# EAGLE library part RS485-TTL-CONVERTER (library zort-library)
RS485 to TTL converter based on MAX485 chip
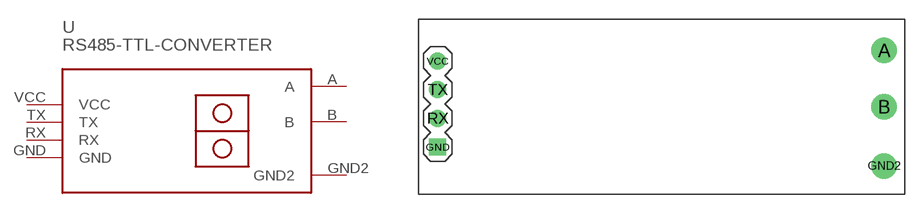
[diagram p1: symbol with the pads of RS485-TTL-CONVERTER; footprint RS485-TTL-CONVERTER]

Designator prefix -

## RS485-TTL-CONVERTER  [RS485-TTL-CONVERTER]
A  A  pas
B  B  pas
GND  GND  pas
GND2  GND2  pwr
RX  RX  pas
TX  TX  pas
VCC  VCC  pas

## Footprint RS485-TTL-CONVERTER (pad centres in mm)
RS485 to TTL converter based on MAX485 chip
drill 1.5: A 41.2,12.75; B 41.2,7.75; GND2 41.2,2.5
drill 1 square: GND 1.68,4.19
drill 1: RX 1.68,6.73; TX 1.68,9.27; VCC 1.68,11.81